# EAGLE library part SOM-STM32MP157C (library SEEED_SoM-STM32MP157C)
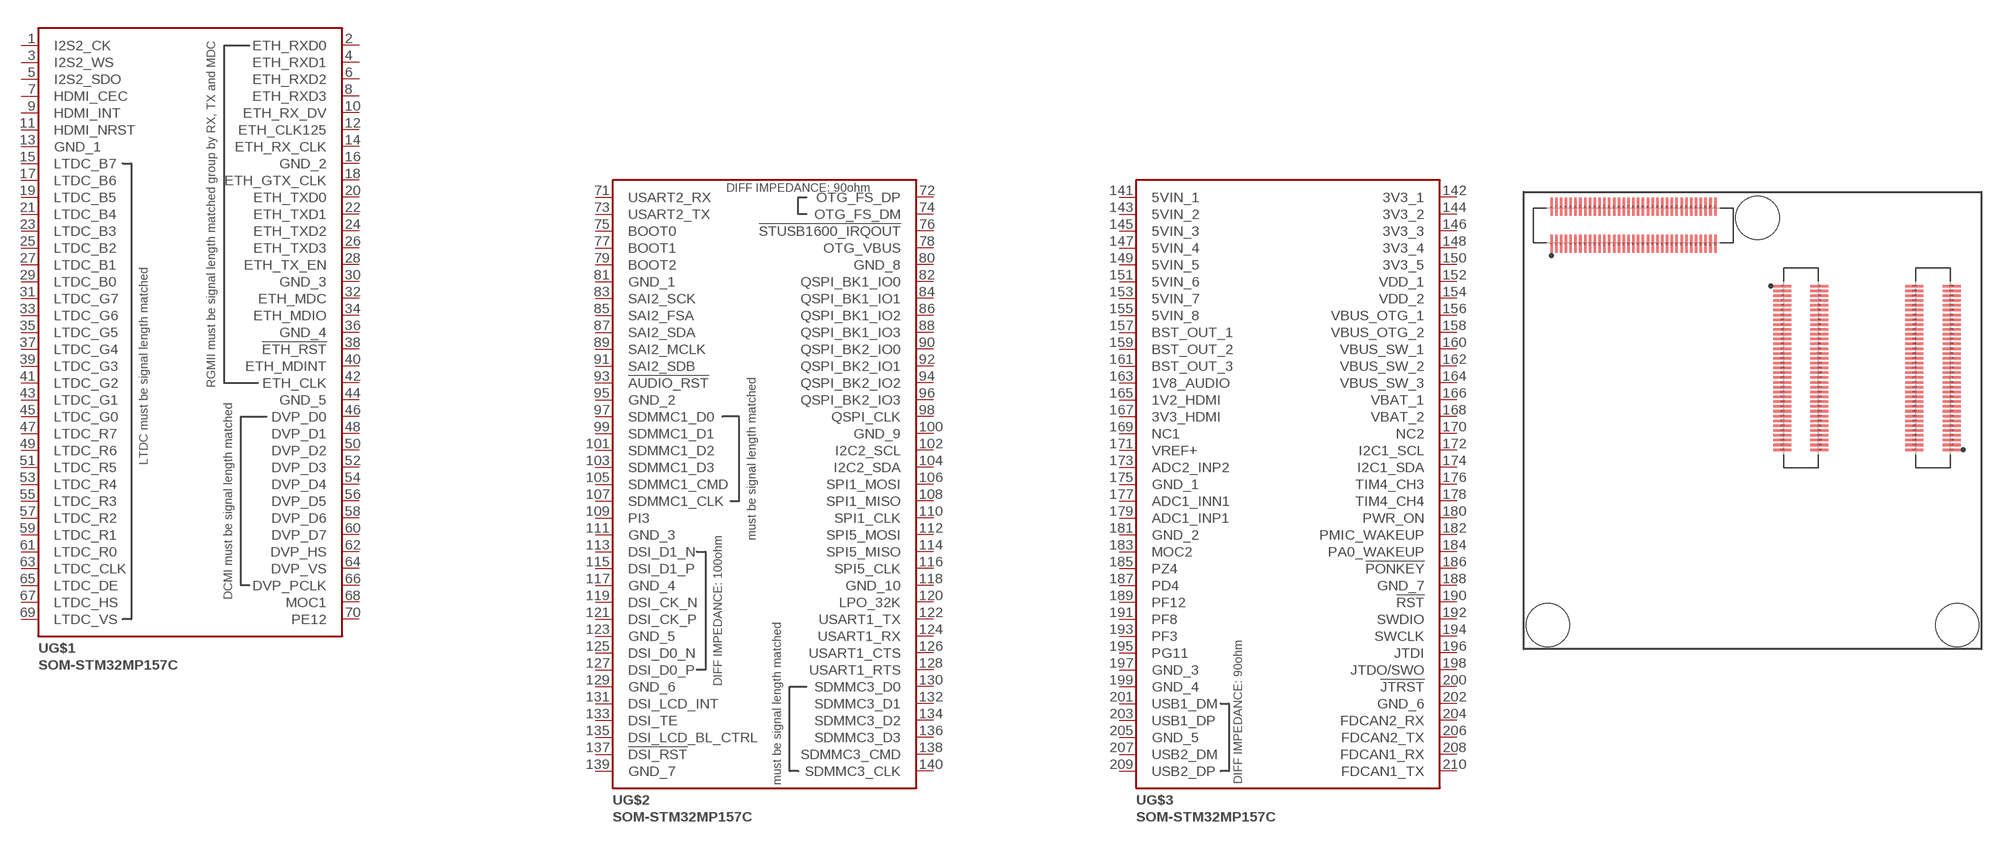
[diagram p0: symbol with the pads of SOM-STM32MP157C; footprint SOM-STM32MP157C]

Designator prefix -; gates G$1=SOM-STM32MP157C_J1 G$2=SOM-STM32MP157C_J2 G$3=SOM-STM32MP157C_J3

## SOM-STM32MP157C  [SOM-STM32MP157C]
1  G$1:I2S2_CK
2  G$1:ETH_RXD0
3  G$1:I2S2_WS
4  G$1:ETH_RXD1
5  G$1:I2S2_SDO
6  G$1:ETH_RXD2
7  G$1:HDMI_CEC
8  G$1:ETH_RXD3
9  G$1:HDMI_INT
10  G$1:ETH_RX_DV
11  G$1:HDMI_NRST
12  G$1:ETH_CLK125
13  G$1:GND_1  sup
14  G$1:ETH_RX_CLK
15  G$1:LTDC_B7
16  G$1:GND_2  sup
17  G$1:LTDC_B6
18  G$1:ETH_GTX_CLK
19  G$1:LTDC_B5
20  G$1:ETH_TXD0
21  G$1:LTDC_B4
22  G$1:ETH_TXD1
23  G$1:LTDC_B3
24  G$1:ETH_TXD2
25  G$1:LTDC_B2
26  G$1:ETH_TXD3
27  G$1:LTDC_B1
28  G$1:ETH_TX_EN
29  G$1:LTDC_B0
30  G$1:GND_3  sup
31  G$1:LTDC_G7
32  G$1:ETH_MDC
33  G$1:LTDC_G6
34  G$1:ETH_MDIO
35  G$1:LTDC_G5
36  G$1:GND_4  sup
37  G$1:LTDC_G4
38  G$1:!ETH_RST
39  G$1:LTDC_G3
40  G$1:ETH_MDINT
41  G$1:LTDC_G2
42  G$1:ETH_CLK
43  G$1:LTDC_G1
44  G$1:GND_5  sup
45  G$1:LTDC_G0
46  G$1:DVP_D0
47  G$1:LTDC_R7
48  G$1:DVP_D1
49  G$1:LTDC_R6
50  G$1:DVP_D2
51  G$1:LTDC_R5
52  G$1:DVP_D3
53  G$1:LTDC_R4
54  G$1:DVP_D4
55  G$1:LTDC_R3
56  G$1:DVP_D5
57  G$1:LTDC_R2
58  G$1:DVP_D6
59  G$1:LTDC_R1
60  G$1:DVP_D7
61  G$1:LTDC_R0
62  G$1:DVP_HS
63  G$1:LTDC_CLK
64  G$1:DVP_VS
65  G$1:LTDC_DE
66  G$1:DVP_PCLK
67  G$1:LTDC_HS
68  G$1:MOC1
69  G$1:LTDC_VS
70  G$1:PE12
71  G$2:USART2_RX
72  G$2:OTG_FS_DP
73  G$2:USART2_TX
74  G$2:OTG_FS_DM
75  G$2:BOOT0
76  G$2:!STUSB1600_IRQOUT
77  G$2:BOOT1
78  G$2:OTG_VBUS  pwr
79  G$2:BOOT2
80  G$2:GND_8  sup
81  G$2:GND_1  sup
82  G$2:QSPI_BK1_IO0
83  G$2:SAI2_SCK
84  G$2:QSPI_BK1_IO1
85  G$2:SAI2_FSA
86  G$2:QSPI_BK1_IO2
87  G$2:SAI2_SDA
88  G$2:QSPI_BK1_IO3
89  G$2:SAI2_MCLK
90  G$2:QSPI_BK2_IO0
91  G$2:SAI2_SDB
92  G$2:QSPI_BK2_IO1
93  G$2:!AUDIO_RST
94  G$2:QSPI_BK2_IO2
95  G$2:GND_2  sup
96  G$2:QSPI_BK2_IO3
97  G$2:SDMMC1_D0
98  G$2:QSPI_CLK
99  G$2:SDMMC1_D1
100  G$2:GND_9  sup
101  G$2:SDMMC1_D2
102  G$2:I2C2_SCL
103  G$2:SDMMC1_D3
104  G$2:I2C2_SDA
105  G$2:SDMMC1_CMD
106  G$2:SPI1_MOSI
107  G$2:SDMMC1_CLK
108  G$2:SPI1_MISO
109  G$2:PI3
110  G$2:SPI1_CLK
111  G$2:GND_3  sup
112  G$2:SPI5_MOSI
113  G$2:DSI_D1_N
114  G$2:SPI5_MISO
115  G$2:DSI_D1_P
116  G$2:SPI5_CLK
117  G$2:GND_4  sup
118  G$2:GND_10  sup
119  G$2:DSI_CK_N
120  G$2:LPO_32K
121  G$2:DSI_CK_P
122  G$2:USART1_TX
123  G$2:GND_5  sup
124  G$2:USART1_RX
125  G$2:DSI_D0_N
126  G$2:USART1_CTS
127  G$2:DSI_D0_P
128  G$2:USART1_RTS
129  G$2:GND_6  sup
130  G$2:SDMMC3_D0
131  G$2:DSI_LCD_INT
132  G$2:SDMMC3_D1
133  G$2:DSI_TE
134  G$2:SDMMC3_D2
135  G$2:DSI_LCD_BL_CTRL
136  G$2:SDMMC3_D3
137  G$2:!DSI_RST
138  G$2:SDMMC3_CMD
139  G$2:GND_7  sup
140  G$2:SDMMC3_CLK
141  G$3:5VIN_1  pwr
142  G$3:3V3_1  pwr
143  G$3:5VIN_2  pwr
144  G$3:3V3_2  pwr
145  G$3:5VIN_3  pwr
146  G$3:3V3_3  pwr
147  G$3:5VIN_4  pwr
148  G$3:3V3_4  pwr
149  G$3:5VIN_5  pwr
150  G$3:3V3_5  pwr
151  G$3:5VIN_6  pwr
152  G$3:VDD_1  pwr
153  G$3:5VIN_7  pwr
154  G$3:VDD_2  pwr
155  G$3:5VIN_8  pwr
156  G$3:VBUS_OTG_1  pwr
157  G$3:BST_OUT_1  pwr
158  G$3:VBUS_OTG_2  pwr
159  G$3:BST_OUT_2  pwr
160  G$3:VBUS_SW_1  pwr
161  G$3:BST_OUT_3  pwr
162  G$3:VBUS_SW_2  pwr
163  G$3:1V8_AUDIO  pwr
164  G$3:VBUS_SW_3  pwr
165  G$3:1V2_HDMI  pwr
166  G$3:VBAT_1  pwr
167  G$3:3V3_HDMI  pwr
168  G$3:VBAT_2  pwr
169  G$3:NC1  nc
170  G$3:NC2  nc
171  G$3:VREF+  hiz
172  G$3:I2C1_SCL
173  G$3:ADC2_INP2
174  G$3:I2C1_SDA
175  G$3:GND_1  sup
176  G$3:TIM4_CH3
177  G$3:ADC1_INN1
178  G$3:TIM4_CH4
179  G$3:ADC1_INP1
180  G$3:PWR_ON
181  G$3:GND_2  sup
182  G$3:PMIC_WAKEUP
183  G$3:MOC2
184  G$3:PA0_WAKEUP
185  G$3:PZ4
186  G$3:!PONKEY
187  G$3:PD4
188  G$3:GND_7  sup
189  G$3:PF12
190  G$3:!RST
191  G$3:PF8
192  G$3:SWDIO
193  G$3:PF3
194  G$3:SWCLK
195  G$3:PG11
196  G$3:JTDI
197  G$3:GND_3  sup
198  G$3:JTDO/SWO
199  G$3:GND_4  sup
200  G$3:!JTRST
201  G$3:USB1_DM
202  G$3:GND_6  sup
203  G$3:USB1_DP
204  G$3:FDCAN2_RX
205  G$3:GND_5  sup
206  G$3:FDCAN2_TX
207  G$3:USB2_DM
208  G$3:FDCAN1_RX
209  G$3:USB2_DP
210  G$3:FDCAN1_TX

## Footprint SOM-STM32MP157C (pad centres in mm)
smd 0.2 x 1.5: 1 -16.69,14.67; 2 -16.69,17.75; 3 -16.29,14.67; 4 -16.29,17.75; 5 -15.89,14.67; 6 -15.89,17.75; 7 -15.49,14.67; 8 -15.49,17.75; 9 -15.09,14.67; 10 -15.09,17.75; 11 -14.69,14.67; 12 -14.69,17.75; 13 -14.29,14.67; 14 -14.29,17.75; 15 -13.89,14.67; 16 -13.89,17.75; 17 -13.49,14.67; 18 -13.49,17.75; 19 -13.09,14.67; 20 -13.09,17.75; 21 -12.69,14.67; 22 -12.69,17.75; 23 -12.29,14.67; 24 -12.29,17.75; 25 -11.89,14.67; 26 -11.89,17.75; 27 -11.49,14.67; 28 -11.49,17.75; 29 -11.09,14.67; 30 -11.09,17.75; 31 -10.69,14.67; 32 -10.69,17.75; 33 -10.29,14.67; 34 -10.29,17.75; 35 -9.89,14.67; 36 -9.89,17.75; 37 -9.49,14.67; 38 -9.49,17.75; 39 -9.09,14.67; 40 -9.09,17.75; 41 -8.69,14.67; 42 -8.69,17.75; 43 -8.29,14.67; 44 -8.29,17.75; 45 -7.89,14.67; 46 -7.89,17.75; 47 -7.49,14.67; 48 -7.49,17.75; 49 -7.09,14.67; 50 -7.09,17.75; 51 -6.69,14.67; 52 -6.69,17.75; 53 -6.29,14.67; 54 -6.29,17.75; 55 -5.89,14.67; 56 -5.89,17.75; 57 -5.49,14.67; 58 -5.49,17.75; 59 -5.09,14.67; 60 -5.09,17.75; 61 -4.69,14.67; 62 -4.69,17.75; 63 -4.29,14.67; 64 -4.29,17.75; 65 -3.89,14.67; 66 -3.89,17.75; 67 -3.49,14.67; 68 -3.49,17.75; 69 -3.09,14.67; 70 -3.09,17.75
smd 1.5 x 0.2: 71 2.47,11.17; 72 5.55,11.17; 73 2.47,10.77; 74 5.55,10.77; 75 2.47,10.37; 76 5.55,10.37; 77 2.47,9.97; 78 5.55,9.97; 79 2.47,9.57; 80 5.55,9.57; 81 2.47,9.17; 82 5.55,9.17; 83 2.47,8.77; 84 5.55,8.77; 85 2.47,8.37; 86 5.55,8.37; 87 2.47,7.97; 88 5.55,7.97; 89 2.47,7.57; 90 5.55,7.57; 91 2.47,7.17; 92 5.55,7.17; 93 2.47,6.77; 94 5.55,6.77; 95 2.47,6.37; 96 5.55,6.37; 97 2.47,5.97; 98 5.55,5.97; 99 2.47,5.57; 100 5.55,5.57; 101 2.47,5.17; 102 5.55,5.17; 103 2.47,4.77; 104 5.55,4.77; 105 2.47,4.37; 106 5.55,4.37; 107 2.47,3.97; 108 5.55,3.97; 109 2.47,3.57; 110 5.55,3.57; 111 2.47,3.17; 112 5.55,3.17; 113 2.47,2.77; 114 5.55,2.77; 115 2.47,2.37; 116 5.55,2.37; 117 2.47,1.97; 118 5.55,1.97; 119 2.47,1.57; 120 5.55,1.57; 121 2.47,1.17; 122 5.55,1.17; 123 2.47,0.77; 124 5.55,0.77; 125 2.47,0.37; 126 5.55,0.37; 127 2.47,-0.03; 128 5.55,-0.03; 129 2.47,-0.43; 130 5.55,-0.43; 131 2.47,-0.83; 132 5.55,-0.83; 133 2.47,-1.23; 134 5.55,-1.23; 135 2.47,-1.63; 136 5.55,-1.63; 137 2.47,-2.03; 138 5.55,-2.03; 139 2.47,-2.43; 140 5.55,-2.43; 141 16.52,-2.43; 142 13.44,-2.43; 143 16.52,-2.03; 144 13.44,-2.03; 145 16.52,-1.63; 146 13.44,-1.63; 147 16.52,-1.23; 148 13.44,-1.23; 149 16.52,-0.83; 150 13.44,-0.83; 151 16.52,-0.43; 152 13.44,-0.43; 153 16.52,-0.03; 154 13.44,-0.03; 155 16.52,0.37; 156 13.44,0.37; 157 16.52,0.77; 158 13.44,0.77; 159 16.52,1.17; 160 13.44,1.17; 161 16.52,1.57; 162 13.44,1.57; 163 16.52,1.97; 164 13.44,1.97; 165 16.52,2.37; 166 13.44,2.37; 167 16.52,2.77; 168 13.44,2.77; 169 16.52,3.17; 170 13.44,3.17; 171 16.52,3.57; 172 13.44,3.57; 173 16.52,3.97; 174 13.44,3.97; 175 16.52,4.37; 176 13.44,4.37; 177 16.52,4.77; 178 13.44,4.77; 179 16.52,5.17; 180 13.44,5.17; 181 16.52,5.57; 182 13.44,5.57; 183 16.52,5.97; 184 13.44,5.97; 185 16.52,6.37; 186 13.44,6.37; 187 16.52,6.77; 188 13.44,6.77; 189 16.52,7.17; 190 13.44,7.17; 191 16.52,7.57; 192 13.44,7.57; 193 16.52,7.97; 194 13.44,7.97; 195 16.52,8.37; 196 13.44,8.37; 197 16.52,8.77; 198 13.44,8.77; 199 16.52,9.17; 200 13.44,9.17; 201 16.52,9.57; 202 13.44,9.57; 203 16.52,9.97; 204 13.44,9.97; 205 16.52,10.37; 206 13.44,10.37; 207 16.52,10.77; 208 13.44,10.77; 209 16.52,11.17; 210 13.44,11.17
hole 3.6 at -17,-17
hole 3.6 at 17,-17
hole 3.6 at 0.42,16.84